# Altium integrated library 3-106505-2.IntLib: 1 symbol
Pins are listed as number, name and electrical type; pins without a type are passive.

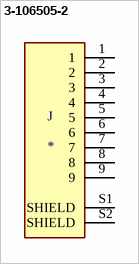
[diagram p0: symbol 3-106505-2]

## 3-106505-2
designator J
D Sub Connector, Amplimite Hdp-20, Amplimite Hdp-20 Series, Da, Receptacle, 9, Metal, Solder; MF: TE Connectivity; MP: 3-106505-2; SnapEDA_Link: https://www.snapeda.com/parts/3-106505-2/TE%20Connectivity%20AMP%20Connectors/view-part/2374605/?ref=snap; Price: None; Package: None; Value: *; Availability: Unavailable
footprint TE_3-106505-2
pins: 1, 2, 3, 4, 5, 6, 7, 8, 9, S1 SHIELD, S2 SHIELD